# Altium footprint library PCB - CONNECTOR - SAMTEC SSQ-103-01-G-D.PCBLIB: 1 footprints
Each footprint in its own frame and in the unit in brackets; x right, y up, seen from the top. Pads: shape width x height; smd on the part's side, far side on the other; paste and mask are expansions set on the pad; w line width, h text height; cw(c..) or ccw(c..) is an arc to the next point about the centre after c.
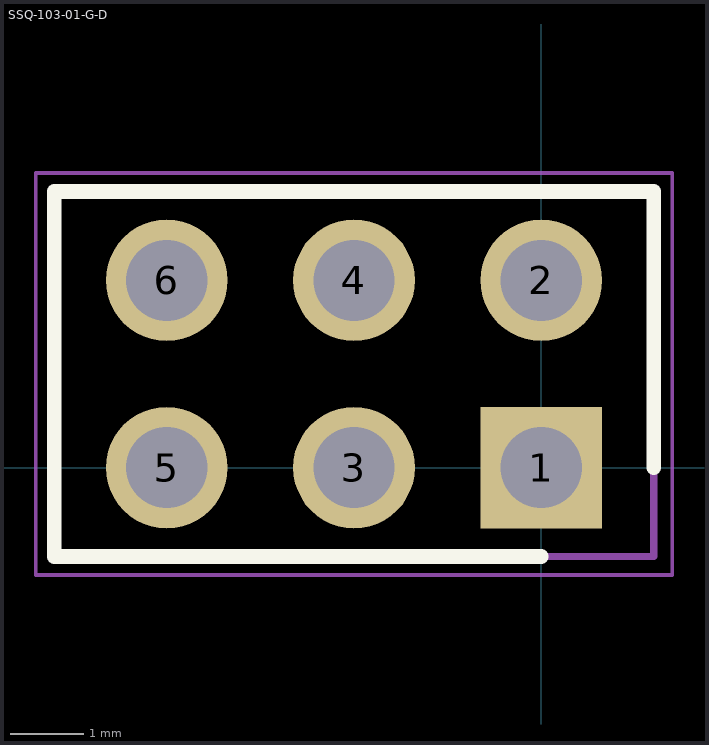
[diagram p0: the footprint, top view; thin cyan lines are the x and y axes]

## SSQ-103-01-G-D [mm]
pads (6):
  rect 1.65x1.65 hole 1.1: 1(0,0)
  round 1.65 hole 1.1: 2(0,2.54) 3(-2.54,0) 4(-2.54,2.54) 5(-5.08,0) 6(-5.08,2.54)
Top Overlay:
  lines w0.2: 0,-1.205 -6.605,-1.205 -6.605,3.745 1.525,3.745 1.525,0
Top Assembly:
  lines w0.1: -6.605,-1.205 -6.605,3.745 1.525,3.745 1.525,-1.205 -6.605,-1.205
  text ".Designator" at -5.842,4.318 h1.52
Top Courtyard (Mech7):
  lines w0.05: -6.855,-1.455 -6.855,3.995 1.775,3.995 1.775,-1.455 -6.855,-1.455
3D body "SSQ-103-01-G-D.stp": height 8.51, standoff -2.64, extent -6.605,-1.205 1.525,3.745